# Altium footprint library 3306F1503.PcbLib: 1 footprints
Each footprint in its own frame and in the unit in brackets; x right, y up, seen from the top. Pads: shape width x height; smd on the part's side, far side on the other; paste and mask are expansions set on the pad; w line width, h text height; cw(c..) or ccw(c..) is an arc to the next point about the centre after c.
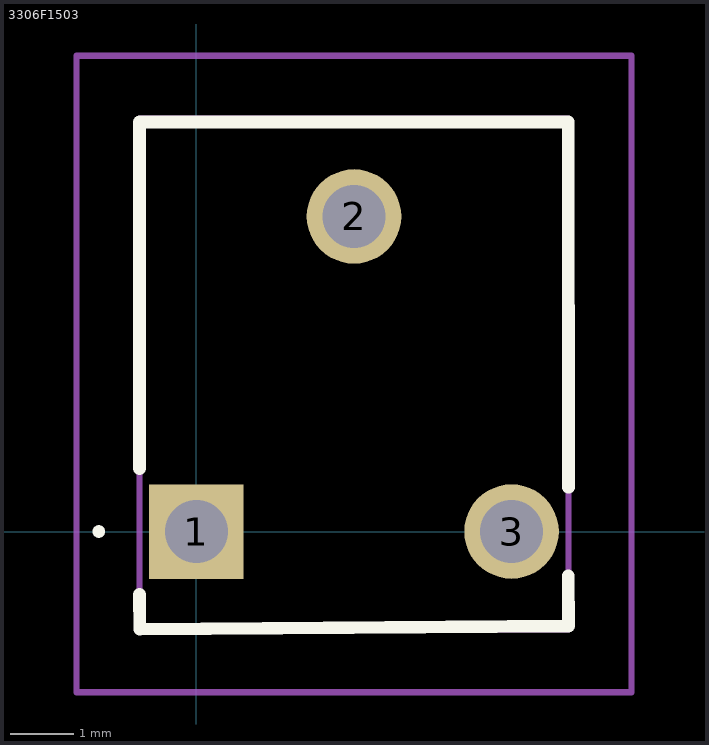
[diagram p0: the footprint, top view; thin cyan lines are the x and y axes]

## 3306F1503 [mm]
pads (3):
  rect 1.5x1.5 hole 1: 1(0,0)
  round 1.5 hole 1: 2(2.5,5) 3(5,0)
Top Overlay:
  lines w0.1: -1.6,0 -1.6,0 ; -1.6,0 ccw(c-1.55,0) -1.5,0 ; -1.6,0 cw(c-1.55,0) -1.5,0 ; -1.5,0 -1.5,0
  lines w0.2: -0.905,-1 -0.9,-1.55 5.905,-1.5 5.9,-0.7 ; -0.905,1 -0.905,6.5 5.9,6.5 5.905,0.7
Mechanical 15:
  lines w0.1: -0.905,-1.55 5.905,-1.55 5.905,6.55 -0.905,6.55 -0.905,-1.55
Mechanical 20:
  lines w0.1: -1.905,-2.55 6.905,-2.55 6.905,7.55 -1.905,7.55 -1.905,-2.55